# EAGLE library part MAX32625IWY+ (library PCB_Components)
MAXIM INTEGRATED PRODUCTS - MAX32625IWY+ - Microcontroller, MAX Family MAX326xx Series Microcontrollers, ARM Cortex-M4F, 32bit , 96 MHz, 512 KB W633B3+1 Source: Datasheet <https://pdfserv.maximintegrated.com/en/ds/MAX32625-MAX32626.pdf>
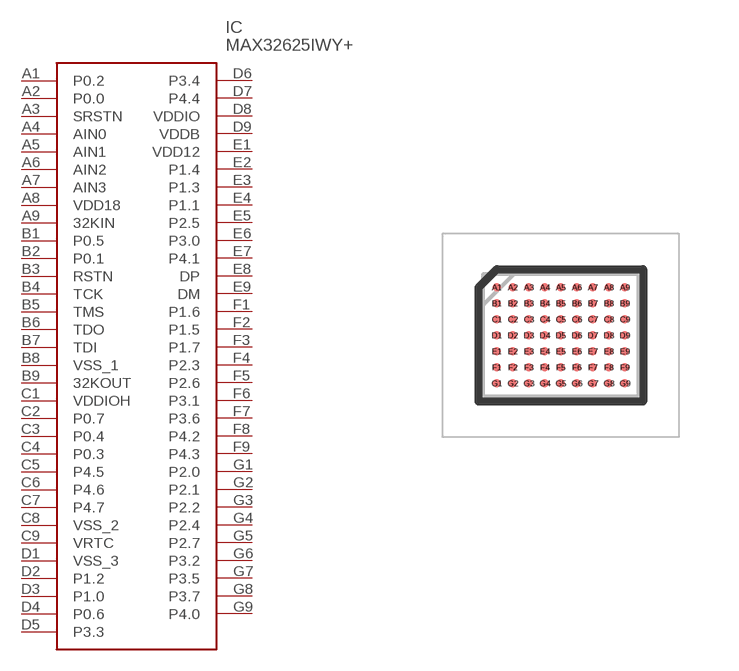
[diagram p9: symbol with the pads of BGA63C40P9X7_387X307X69; footprint BGA63C40P9X7_387X307X69]

Designator prefix IC

## MAX32625IWY+ (DESCRIPTION: MAXIM INTEGRATED PRODUCTS - MAX32625IWY+ - Microcontroller, MAX Family MAX326xx Series Microcontrollers, ARM Cortex-M4F, 32bit , 96 MHz, 512 KB W633B3+1; HEIGHT: 0.69mm; MANUFACTURER_NAME: Maxim Integrated; MANUFACTURER_PART_NUMBER: MAX32625IWY+; MOUSER_PART_NUMBER: 700-MAX32625IWY+; MOUSER_PRICE-STOCK: https://www.mouser.co.uk/ProductDetail/Maxim-Integrated/MAX32625IWY%2b?qs=NoqMqJKvPFIB7NXbrA2IWA%3D%3D)  [BGA63C40P9X7_387X307X69]
A1  P0.2
A2  P0.0
A3  SRSTN
A4  AIN0
A5  AIN1
A6  AIN2
A7  AIN3
A8  VDD18
A9  32KIN
B1  P0.5
B2  P0.1
B3  RSTN
B4  TCK
B5  TMS
B6  TDO
B7  TDI
B8  VSS_1
B9  32KOUT
C1  VDDIOH
C2  P0.7
C3  P0.4
C4  P0.3
C5  P4.5
C6  P4.6
C7  P4.7
C8  VSS_2
C9  VRTC
D1  VSS_3
D2  P1.2
D3  P1.0
D4  P0.6
D5  P3.3
D6  P3.4
D7  P4.4
D8  VDDIO
D9  VDDB
E1  VDD12
E2  P1.4
E3  P1.3
E4  P1.1
E5  P2.5
E6  P3.0
E7  P4.1
E8  DP
E9  DM
F1  P1.6
F2  P1.5
F3  P1.7
F4  P2.3
F5  P2.6
F6  P3.1
F7  P3.6
F8  P4.2
F9  P4.3
G1  P2.0
G2  P2.1
G3  P2.2
G4  P2.4
G5  P2.7
G6  P3.2
G7  P3.5
G8  P3.7
G9  P4.0

## Footprint BGA63C40P9X7_387X307X69 (pad centres in mm)
W633B3+1
smd 0.216 x 0.216: A1 -1.6,1.2; A2 -1.2,1.2; A3 -0.8,1.2; A4 -0.4,1.2; A5 0,1.2; A6 0.4,1.2; A7 0.8,1.2; A8 1.2,1.2; A9 1.6,1.2; B1 -1.6,0.8; B2 -1.2,0.8; B3 -0.8,0.8; B4 -0.4,0.8; B5 0,0.8; B6 0.4,0.8; B7 0.8,0.8; B8 1.2,0.8; B9 1.6,0.8; C1 -1.6,0.4; C2 -1.2,0.4; C3 -0.8,0.4; C4 -0.4,0.4; C5 0,0.4; C6 0.4,0.4; C7 0.8,0.4; C8 1.2,0.4; C9 1.6,0.4; D1 -1.6,0; D2 -1.2,0; D3 -0.8,0; D4 -0.4,0; D5 0,0; D6 0.4,0; D7 0.8,0; D8 1.2,0; D9 1.6,0; E1 -1.6,-0.4; E2 -1.2,-0.4; E3 -0.8,-0.4; E4 -0.4,-0.4; E5 0,-0.4; E6 0.4,-0.4; E7 0.8,-0.4; E8 1.2,-0.4; E9 1.6,-0.4; F1 -1.6,-0.8; F2 -1.2,-0.8; F3 -0.8,-0.8; F4 -0.4,-0.8; F5 0,-0.8; F6 0.4,-0.8; F7 0.8,-0.8; F8 1.2,-0.8; F9 1.6,-0.8; G1 -1.6,-1.2; G2 -1.2,-1.2; G3 -0.8,-1.2; G4 -0.4,-1.2; G5 0,-1.2; G6 0.4,-1.2; G7 0.8,-1.2; G8 1.2,-1.2; G9 1.6,-1.2